# Altium footprint library XH2.54_DIP_母座.PcbLib: 18 footprints (part 1 of 2)
Each footprint in its own frame and in the unit in brackets; x right, y up, seen from the top. Pads: shape width x height; smd on the part's side, far side on the other; paste and mask are expansions set on the pad; w line width, h text height; cw(c..) or ccw(c..) is an arc to the next point about the centre after c.
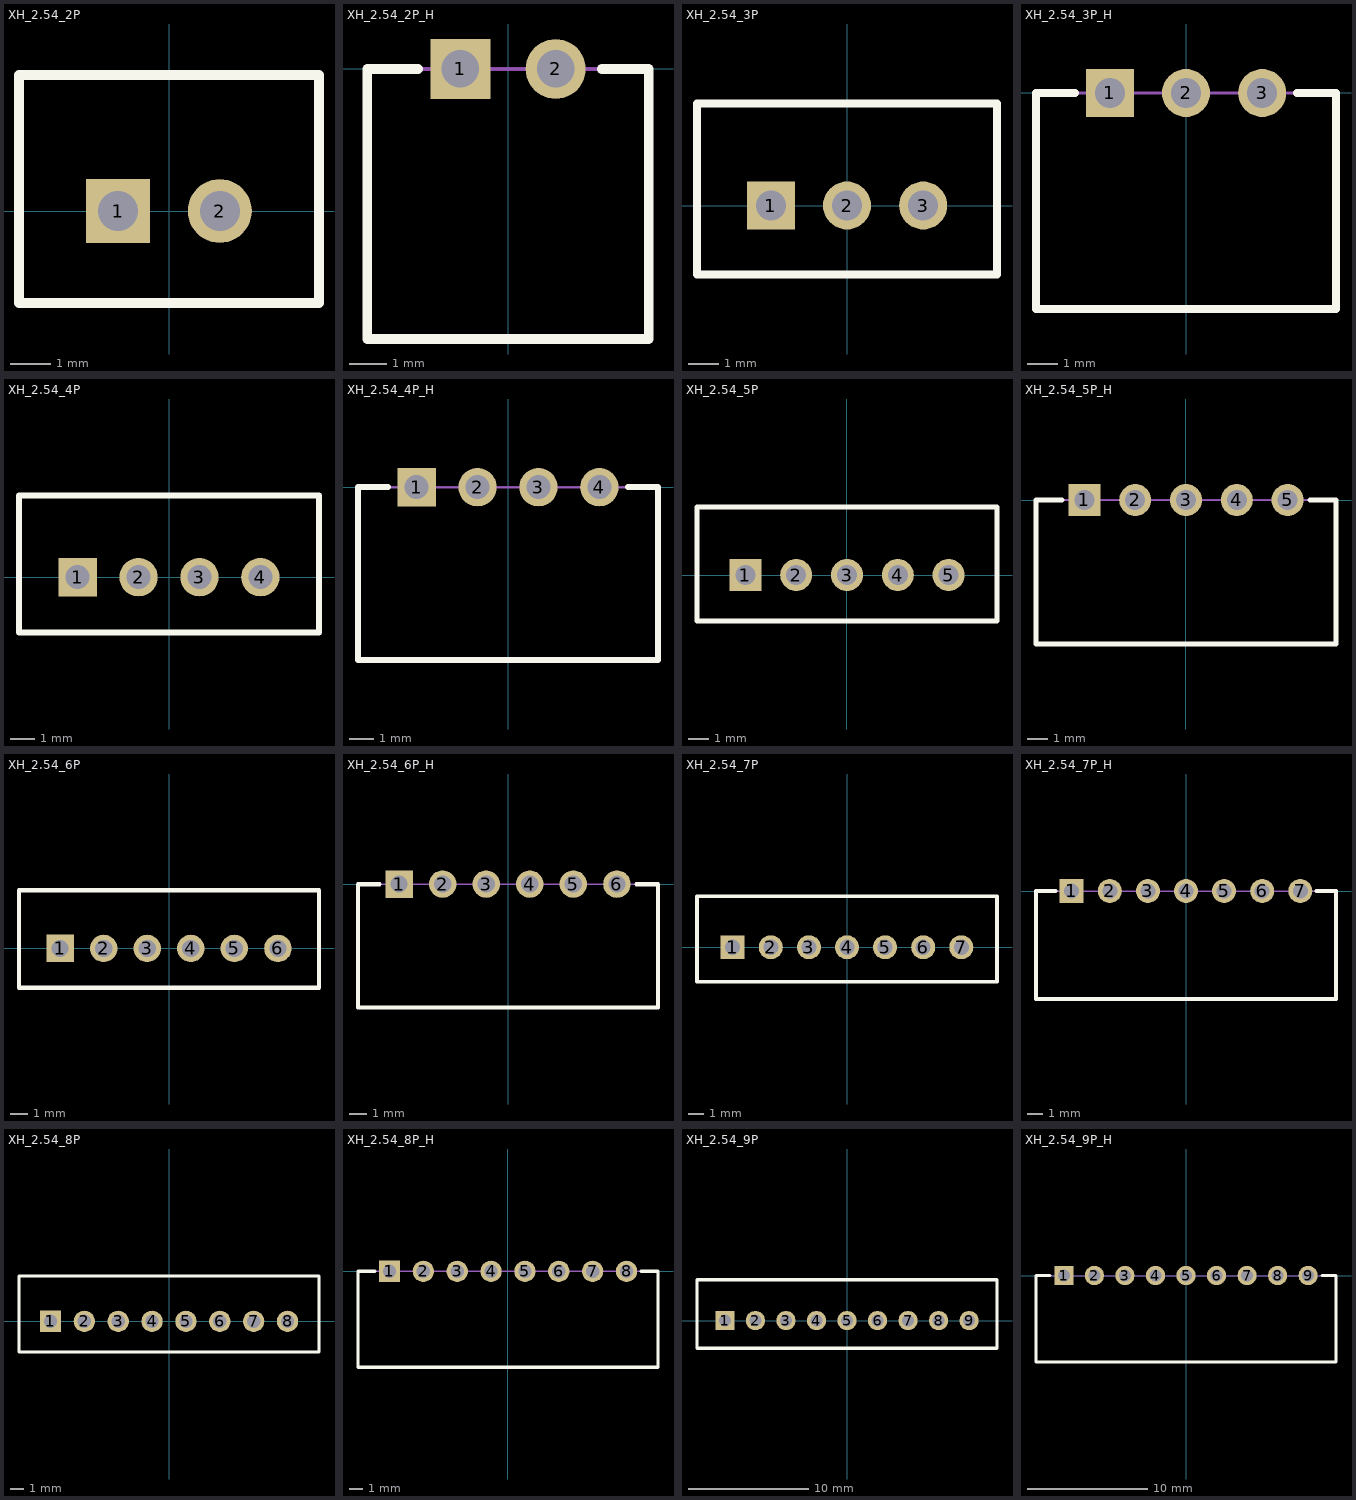
[diagram p0: the footprints below, top view; thin cyan lines are the x and y axes]

## XH_2.54_2P [mm]
pads (2):
  rect 1.6x1.6 hole 1: 1(-1.27,0)
  round 1.6 hole 1: 2(1.27,0)
Top Overlay:
  lines w0.254: -3.75,-2.3 -3.75,3.4 3.75,3.4 3.75,-2.3 -3.75,-2.3
Mechanical 15:
  lines w0.1: -3.75,-2.3 3.75,-2.3 3.75,3.4 -3.75,3.4 -3.75,-2.3
3D body "Header-XH2.54-2.STEP": height 7, standoff -3.3, extent -3.75,-2.3 3.75,3.4

## XH_2.54_2P_H [mm]
pads (2):
  rect 1.6x1.6 hole 1: 1(-1.27,0)
  round 1.6 hole 1: 2(1.27,0)
Top Overlay:
  lines w0.254: -2.4,0 -3.75,0 -3.75,-7.2 3.75,-7.2 3.75,0 2.5,0
Mechanical 15:
  lines w0.1: -3.75,-7.2 3.75,-7.2 3.75,0 -3.75,0 -3.75,-7.2

## XH_2.54_3P [mm]
pads (3):
  rect 1.6x1.6 hole 1: 1(-2.54,0)
  round 1.6 hole 1: 2(0,0) 3(2.54,0)
Top Overlay:
  lines w0.254: -5,-2.3 -5,3.4 5,3.4 5,-2.3 -5,-2.3
Mechanical 15:
  lines w0.1: -5,-2.3 -5,3.4 5,3.4 5,-2.3 -5,-2.3
3D body "Header-XH2.54-3.STEP": height 7, standoff -3.3, extent -5,-2.3 5,3.4

## XH_2.54_3P_H [mm]
pads (3):
  rect 1.6x1.6 hole 1: 1(-2.54,0)
  round 1.6 hole 1: 2(0,0) 3(2.54,0)
Top Overlay:
  lines w0.254: -3.7,0 -5,0 -5,-7.2 5,-7.2 5,0 3.7,0
Mechanical 15:
  lines w0.1: -5,-7.2 5,-7.2 5,0 -5,0 -5,-7.2

## XH_2.54_4P [mm]
pads (4):
  rect 1.6x1.6 hole 1: 1(-3.81,0)
  round 1.6 hole 1: 2(-1.27,0) 3(1.27,0) 4(3.81,0)
Top Overlay:
  lines w0.254: -6.25,-2.3 -6.25,3.4 6.25,3.4 6.25,-2.3 -6.25,-2.3
Mechanical 15:
  lines w0.1: -6.25,-2.3 -6.25,3.4 6.25,3.4 6.25,-2.3 -6.25,-2.3
3D body "Header-XH2.54-4.STEP": height 7, standoff -3.3, extent -6.25,-2.3 6.25,3.4

## XH_2.54_4P_H [mm]
pads (4):
  rect 1.6x1.6 hole 1: 1(-3.81,0)
  round 1.6 hole 1: 2(-1.27,0) 3(1.27,0) 4(3.81,0)
Top Overlay:
  lines w0.254: -5,0 -6.25,0 -6.25,-7.2 6.25,-7.2 6.25,0 5,0
Mechanical 15:
  lines w0.1: -6.25,-7.2 -6.25,0 6.25,0 6.25,-7.2 -6.25,-7.2
3D body "XH2.54-4-H.STEP": height 5.8, standoff -3.25, extent -6.26,-7.8 6.26,0.3

## XH_2.54_5P [mm]
pads (5):
  rect 1.6x1.6 hole 1: 1(-5.08,0)
  round 1.6 hole 1: 2(-2.54,0) 3(0,0) 4(2.54,0) 5(5.08,0)
Top Overlay:
  lines w0.254: -7.5,-2.3 -7.5,3.4 7.5,3.4 7.5,-2.3 -7.5,-2.3
Mechanical 15:
  lines w0.1: -7.5,-2.3 -7.5,3.4 7.5,3.4 7.5,-2.3 -7.5,-2.3
3D body "Header-XH2.54-5.STEP": height 7, standoff -3.3, extent -7.5,-2.3 7.5,3.4

## XH_2.54_5P_H [mm]
pads (5):
  rect 1.6x1.6 hole 1: 1(-5.08,0)
  round 1.6 hole 1: 2(-2.54,0) 3(0,0) 4(2.54,0) 5(5.08,0)
Top Overlay:
  lines w0.254: -6.2,0 -7.5,0 -7.5,-7.2 7.5,-7.2 7.5,0 6.2,0
Mechanical 15:
  lines w0.1: -7.5,-7.2 7.5,-7.2 7.5,0 -7.5,0 -7.5,-7.2

## XH_2.54_6P [mm]
pads (6):
  rect 1.6x1.6 hole 1: 1(-6.35,0)
  round 1.6 hole 1: 2(-3.81,0) 3(-1.27,0) 4(1.27,0) 5(3.81,0) 6(6.35,0)
Top Overlay:
  lines w0.254: -8.75,-2.3 8.75,-2.3 8.75,3.4 -8.75,3.4 -8.75,-2.3
Mechanical 15:
  lines w0.1: -8.75,-2.3 8.75,-2.3 8.75,3.4 -8.75,3.4 -8.75,-2.3
3D body "Header-XH2.54-6.STEP": height 7, standoff -3.3, extent -8.75,-2.3 8.75,3.4

## XH_2.54_6P_H [mm]
pads (6):
  rect 1.6x1.6 hole 1: 1(-6.35,0)
  round 1.6 hole 1: 2(-3.81,0) 3(-1.27,0) 4(1.27,0) 5(3.81,0) 6(6.35,0)
Top Overlay:
  lines w0.254: -7.5,0 -8.75,0 -8.75,-7.2 8.75,-7.2 8.75,0 7.5,0
Mechanical 15:
  lines w0.1: -8.75,-7.2 8.75,-7.2 8.75,0 -8.75,0 -8.75,-7.2

## XH_2.54_7P [mm]
pads (7):
  rect 1.6x1.6 hole 1: 1(-7.62,0)
  round 1.6 hole 1: 2(-5.08,0) 3(-2.54,0) 4(0,0) 5(2.54,0) 6(5.08,0) 7(7.62,0)
Top Overlay:
  lines w0.254: -10,-2.3 -10,3.4 10,3.4 10,-2.3 -10,-2.3
Mechanical 15:
  lines w0.1: -10,-2.3 -10,3.4 10,3.4 10,-2.3 -10,-2.3
3D body "Header-XH2.54-7.STEP": height 7, standoff -3.3, extent -10.05,-2.3 10.05,3.4

## XH_2.54_7P_H [mm]
pads (7):
  rect 1.6x1.6 hole 1: 1(-7.62,0)
  round 1.6 hole 1: 2(-5.08,0) 3(-2.54,0) 4(0,0) 5(2.54,0) 6(5.08,0) 7(7.62,0)
Top Overlay:
  lines w0.254: -8.7,0 -10,0 -10,-7.2 10,-7.2 10,0 8.7,0
Mechanical 15:
  lines w0.1: -10,-7.2 10,-7.2 10,0 -10,0 -10,-7.2

## XH_2.54_8P [mm]
pads (8):
  rect 1.6x1.6 hole 1: 1(-8.89,0)
  round 1.6 hole 1: 2(-6.35,0) 3(-3.81,0) 4(-1.27,0) 5(1.27,0) 6(3.81,0) 7(6.35,0) 8(8.89,0)
Top Overlay:
  lines w0.254: -11.25,-2.3 -11.25,3.4 11.25,3.4 11.25,-2.3 -11.25,-2.3
Mechanical 15:
  lines w0.1: -11.25,-2.3 -11.25,3.4 11.25,3.4 11.25,-2.3 -11.25,-2.3
3D body "Header-XH2.54-8.STEP": height 7, standoff -3.3, extent -11.31,-2.3 11.29,3.4

## XH_2.54_8P_H [mm]
pads (8):
  rect 1.6x1.6 hole 1: 1(-8.89,0)
  round 1.6 hole 1: 2(-6.35,0) 3(-3.81,0) 4(-1.27,0) 5(1.27,0) 6(3.81,0) 7(6.35,0) 8(8.89,0)
Top Overlay:
  lines w0.254: -10,0 -11.25,0 -11.25,-7.2 11.25,-7.2 11.25,0 10,0
Mechanical 15:
  lines w0.1: -11.25,-7.2 11.25,-7.2 11.25,0 -11.25,0 -11.25,-7.2
3D body "XH2.54-8-H.STEP": height 5.8, standoff -3.25, extent -11.25,-7.651 11.15,0.451

## XH_2.54_9P [mm]
pads (9):
  rect 1.6x1.6 hole 1: 1(-10.16,0)
  round 1.6 hole 1: 2(-7.62,0) 3(-5.08,0) 4(-2.54,0) 5(0,0) 6(2.54,0) 7(5.08,0) 8(7.62,0) 9(10.16,0)
Top Overlay:
  lines w0.254: -12.48,-2.3 -12.48,3.4 12.48,3.4 12.48,-2.3 -12.48,-2.3
Mechanical 15:
  lines w0.1: -12.48,-2.3 -12.48,3.4 12.48,3.4 12.48,-2.3 -12.48,-2.3
3D body "Header-XH2.54-9.STEP": height 7, standoff -3.3, extent -12.54,-2.3 12.56,3.4

## XH_2.54_9P_H [mm]
pads (9):
  rect 1.6x1.6 hole 1: 1(-10.16,0)
  round 1.6 hole 1: 2(-7.62,0) 3(-5.08,0) 4(-2.54,0) 5(0,0) 6(2.54,0) 7(5.08,0) 8(7.62,0) 9(10.16,0)
Top Overlay:
  lines w0.254: -11.3,0 -12.48,0 -12.48,-7.2 12.48,-7.2 12.48,0 11.3,0
Mechanical 15:
  lines w0.1: -12.48,-7.2 12.48,-7.2 12.48,0 -12.48,0 -12.48,-7.2